# Altium footprint library PcbLib1.PcbLib: 30 footprints (part 1 of 2)
Each footprint in its own frame and in the unit in brackets; x right, y up, seen from the top. Pads: shape width x height; smd on the part's side, far side on the other; paste and mask are expansions set on the pad; w line width, h text height; cw(c..) or ccw(c..) is an arc to the next point about the centre after c.
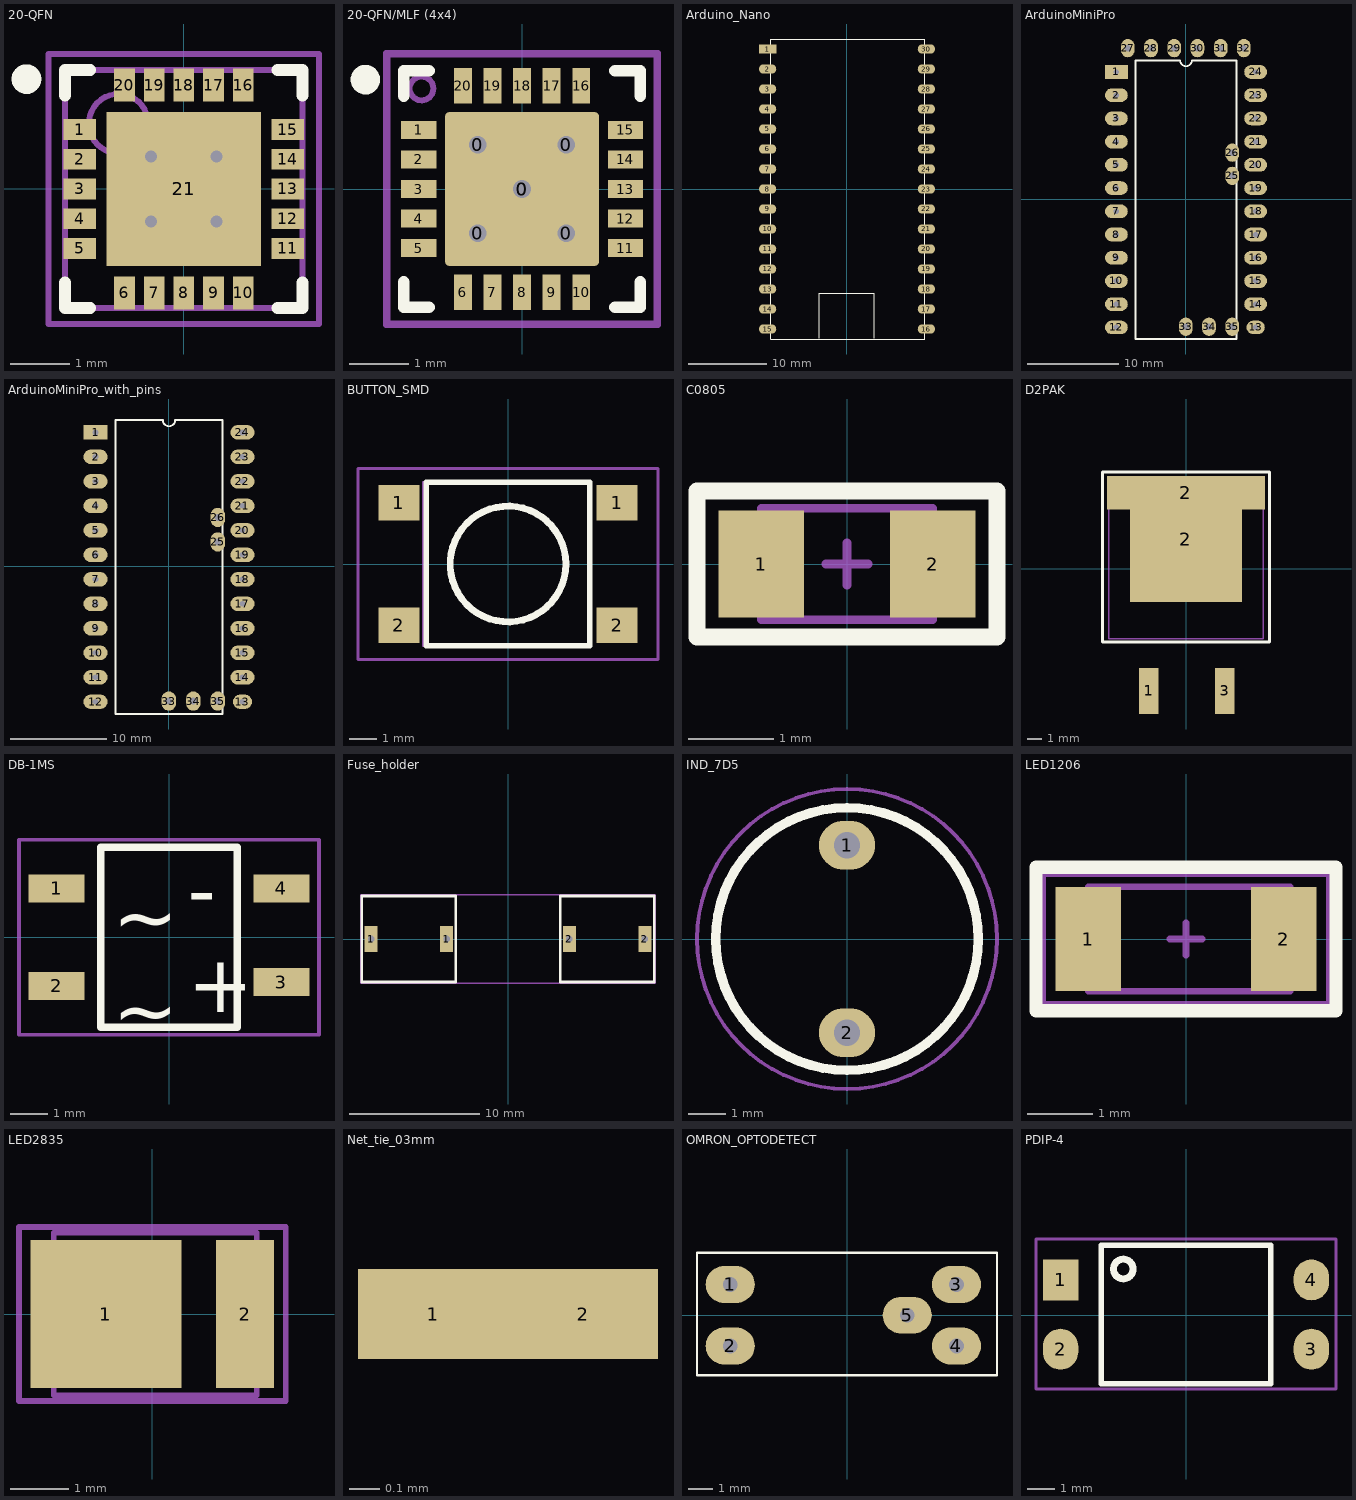
[diagram p0: the footprints below, top view; thin cyan lines are the x and y axes]

## 20-QFN [mm] "PQFN, 20-Leads, Body 4,00x4,00mm, Pitch 0,50mm, Thermal Pad 2,60x2,60mm, IPC Medium Density"
height 0.8
pads (21):
  rect 0.55x0.35 smd: 1(-1.75,1) 2(-1.75,0.5) 3(-1.75,0) 4(-1.75,-0.5) 5(-1.75,-1) 11(1.75,-1) 12(1.75,-0.5) 13(1.75,0) 14(1.75,0.5) 15(1.75,1)
  rect 0.35x0.55 smd: 6(-1,-1.75) 7(-0.5,-1.75) 8(0,-1.75) 9(0.5,-1.75) 10(1,-1.75) 16(1,1.75) 17(0.5,1.75) 18(0,1.75) 19(-0.5,1.75) 20(-1,1.75)
  rect 2.6x2.6 smd: 21(0,0)
via 0.55,-0.55 diameter 0.5 hole 0.2
via -0.55,-0.55 diameter 0.5 hole 0.2
via 0.55,0.55 diameter 0.5 hole 0.2
via -0.55,0.55 diameter 0.5 hole 0.2
Top Overlay:
  circle w0.25: c-2.65,1.85 r0.125
  lines w0.2: -2,-1.575 -2,-2 -1.575,-2 ; -2,1.575 -2,2 -1.575,2 ; 1.575,-2 2,-2 2,-1.575 ; 1.575,2 2,2 2,1.575
Top Assy:
  circle w0.1: c-1.1,1.1 r0.5
  lines w0.1: -2,-2 2,-2 2,2 -2,2 -2,-2
Borders:
  lines w0.1: -0.5,0 0.5,0 ; 0,-0.5 0,0.5 ; -2.275,-2.275 2.275,-2.275 2.275,2.275 -2.275,2.275 -2.275,-2.275
3D body "20-QFN.step": height 0.8, standoff 0, extent -2,-2 2,2

## 20-QFN/MLF (4x4) [mm]
pads (26):
  round 0.5 hole 0.3: 0(-0.75,-0.75) 0(-0.75,0.75) 0(0,0) 0(0.75,-0.75) 0(0.75,0.75)
  rrect5% 2.6x2.6 smd: 0(0,0)
  rect 0.6x0.3 smd: 1(-1.75,1) 2(-1.75,0.5) 3(-1.75,0) 4(-1.75,-0.5) 5(-1.75,-1) 11(1.75,-1) 12(1.75,-0.5) 13(1.75,0) 14(1.75,0.5) 15(1.75,1)
  rect 0.3x0.6 smd: 6(-1,-1.75) 7(-0.5,-1.75) 8(0,-1.75) 9(0.5,-1.75) 10(1,-1.75) 16(1,1.75) 17(0.5,1.75) 18(0,1.75) 19(-0.5,1.75) 20(-1,1.75)
Top Overlay:
  circle w0.25: c-2.65,1.85 r0.125
  lines w0.2: -2,-1.575 -2,-2 -1.575,-2 ; -2,1.575 -2,2 -1.575,2 ; 1.575,-2 2,-2 2,-1.575 ; 1.575,2 2,2 2,1.575
Top Assy:
  circle w0.1: c-1.7,1.7 r0.2
  lines w0.1: -2.3,-2.3 2.3,-2.3 2.3,2.3 -2.3,2.3 -2.3,-2.3
Borders:
  lines w0.1: -0.5,0 0.5,0 ; 0,-0.5 0,0.5 ; -2.275,-2.275 2.275,-2.275 2.275,2.275 -2.275,2.275 -2.275,-2.275
3D body "User Library-QFN20_4x4x0_8.STEP": height 0.78, standoff -0.02, extent -2.01,-2.01 2.01,2.01

## Arduino_Nano [mm]
pads (30):
  rect 2.2x1.2 smd: 1(-10.065,17.83)
  oval 2.2x1.2 smd: 2(-10.065,15.29) 3(-10.065,12.75) 4(-10.065,10.21) 5(-10.065,7.67) 6(-10.065,5.13) 7(-10.065,2.59) 8(-10.065,0.05) 9(-10.065,-2.49) 10(-10.065,-5.03) 11(-10.065,-7.57) 12(-10.065,-10.11) 13(-10.065,-12.65) 14(-10.065,-15.19) 15(-10.065,-17.73) 16(10.1,-17.73) 17(10.1,-15.19) 18(10.1,-12.65) 19(10.1,-10.11) 20(10.1,-7.57) 21(10.1,-5.03) 22(10.1,-2.49) 23(10.1,0.05) 24(10.1,2.59) 25(10.1,5.13) 26(10.1,7.67) 27(10.1,10.21) 28(10.1,12.75) 29(10.1,15.29) 30(10.1,17.83)
Top Overlay:
  lines w0.1: -3.5,-18.9 -3.5,-13.2 3.5,-13.2 3.5,-18.9 ; -9.665,-19 -9.665,19.1 0.735,19.1 9.865,19.1 9.865,-19 -9.665,-19

## ArduinoMiniPro [mm]
pads (35):
  rect 2.5x1.5 hole 0.6: 1(-7.6,13.9)
  oval 2.5x1.5 hole 0.6: 2(-7.6,11.36) 3(-7.6,8.82) 4(-7.6,6.28) 5(-7.6,3.74) 6(-7.6,1.2) 7(-7.6,-1.34) 8(-7.6,-3.88) 9(-7.6,-6.42) 10(-7.6,-8.96) 11(-7.6,-11.5) 12(-7.6,-14.04) 14(7.64,-11.5) 15(7.64,-8.96) 16(7.64,-6.42) 17(7.64,-3.88) 18(7.64,-1.34) 19(7.64,1.2) 20(7.64,3.74) 21(7.64,6.28) 22(7.64,8.82) 23(7.64,11.36) 24(7.64,13.9)
  oval 2x1.5 hole 0.6: 13(7.64,-14.04)
  oval 1.5x2 hole 0.7: 25(5.08,2.54) 26(5.08,5.08) 27(-6.35,16.51) 28(-3.81,16.51) 29(-1.27,16.51) 30(1.27,16.51) 31(3.81,16.51) 32(6.35,16.51) 33(0,-13.97) 34(2.54,-13.97) 35(5.08,-13.97)
Top Overlay:
  lines w0.2: -5.515,-15.31 -5.515,15.17 -0.615,15.17 ccw(c0.02,15.17) 0.655,15.17 5.555,15.17 5.555,-15.31 -5.515,-15.31

## ArduinoMiniPro_with_pins [mm]
pads (29):
  rect 2.5x1.5 hole 0.6: 1(-7.6,13.9)
  oval 2.5x1.5 hole 0.6: 2(-7.6,11.36) 3(-7.6,8.82) 4(-7.6,6.28) 5(-7.6,3.74) 6(-7.6,1.2) 7(-7.6,-1.34) 8(-7.6,-3.88) 9(-7.6,-6.42) 10(-7.6,-8.96) 11(-7.6,-11.5) 12(-7.6,-14.04) 14(7.64,-11.5) 15(7.64,-8.96) 16(7.64,-6.42) 17(7.64,-3.88) 18(7.64,-1.34) 19(7.64,1.2) 20(7.64,3.74) 21(7.64,6.28) 22(7.64,8.82) 23(7.64,11.36) 24(7.64,13.9)
  oval 2x1.5 hole 0.6: 13(7.64,-14.04)
  oval 1.5x2 hole 0.7: 25(5.08,2.54) 26(5.08,5.08) 33(0,-13.97) 34(2.54,-13.97) 35(5.08,-13.97)
Top Overlay:
  lines w0.2: -5.515,-15.31 -5.515,15.17 -0.615,15.17 ccw(c0.02,15.17) 0.655,15.17 5.555,15.17 5.555,-15.31 -5.515,-15.31

## BUTTON_SMD [mm]
pads (4):
  rect 1.5x1.3 smd: 1(-4,2.25) 1(4,2.25) 2(-4,-2.25) 2(4,-2.25)
Top Overlay:
  circle w0.254: c0,0 r2.121
  lines w0.2: -3,-3 -3,3 -0.13,3 3,3 3,-3 -3,-3
Top Assy:
  lines w0.1: -3.1,-3 3,-3 3,3 -3.1,3 -3.1,-3
Borders:
  lines w0.1: -5.5,-3.5 5.5,-3.5 5.5,3.5 -5.5,3.5 -5.5,-3.5

## C0805 [mm]
pads (2):
  rect 1x1.25 smd: 1(-1,0) 2(1,0)
Top Overlay:
  lines w0.2: -1.75,-0.85 -1.75,0.85 1.75,0.85 1.75,-0.85 -1.75,-0.85
Top Assy:
  lines w0.1: -1,-0.65 -1,0.65 1,0.65 1,-0.65 -1,-0.65
Borders:
  lines w0.1: -0.25,0 0.25,0 ; 0,-0.25 0,0.25 ; -1.75,-0.85 -1.75,0.85 1.75,0.85 1.75,-0.85 -1.75,-0.85
3D body "User Library-C0805-2.STEP": height 0.8, standoff 0, extent -1,-0.625 1,0.625

## D2PAK [mm]
pads (4):
  rect 1.3x3.1 smd: 1(-2.5,-8.2) 3(2.6,-8.2)
  rect 7.5x8.45 smd: 2(0,2)
  rect 10.6x2.25 smd: 2(0,5.1)
Top Overlay:
  lines w0.2: -5.6,-4.9 5.6,-4.9 5.6,6.5 -5.6,6.5 -5.6,-4.9
Top Assy:
  lines w0.1: -5.2,-4.7 -5.2,6.1 5.2,6.1 5.2,-4.7 -5.2,-4.7
Borders:
  lines w0.1: -5.6,-4.9 5.6,-4.9 5.6,6.5 -5.6,6.5 -5.6,-4.9
3D body "pwr263s-35-2r50j.stp": height 4.5, standoff 0, extent -5.05,-9.49 5.05,5.9

## DB-1MS [mm]
pads (4):
  rect 1.5x0.75 smd: 1(-3,1.3) 2(-3,-1.3) 3(3,-1.2) 4(3,1.3)
Top Overlay:
  lines w0.2: -1.815,-2.4 -1.815,2.4 1.815,2.4 1.815,-2.4 -1.815,-2.4
  text "+" at 0.5,-2 h1.52
  text "-" at 0.5,0.5 h1.52
  text "~" at -1.5,-0.2 h1.52
  text "~" at -1.5,-2.7 h1.52
Top Assy:
  lines w0.1: -1.8,-2.4 1.8,-2.4 1.8,2.4 -1.8,2.4 -1.8,-2.4
Borders:
  lines w0.1: -4,-2.6 4,-2.6 4,2.6 -4,2.6 -4,-2.6
3D body "User Library-DB1-MS.STEP": height 2.9, standoff 0, extent -3.8,-2.45 3.8,2.45

## Fuse_holder [mm]
pads (4):
  rect 1x2 hole 0.5 square: 1(-10.5,0) 1(-4.7,0) 2(4.7,0) 2(10.5,0)
Top Overlay:
  lines w0.2: -11.2,-3.3 -11.2,3.3 -4,3.3 -4,-3.3 -11.2,-3.3 ; 4,-3.3 11.2,-3.3 11.2,3.3 4,3.3 4,-3.3
Top Assy:
  lines w0.1: -11.3,-3.4 -11.3,3.4 11.3,3.4 11.3,-3.4 -11.3,-3.4
Borders:
  lines w0.1: -11.3,-3.4 -11.3,3.4 11.3,3.4 11.3,-3.4 -11.3,-3.4
3D body "ALSRobot-Fuse.STEP": height 9.59, standoff -3.31, extent -10.638,-3.115 10.641,3.076

## IND_7D5 [mm]
pads (2):
  oval 1.5x1.3 hole 0.7: 1(0,2.5) 2(0,-2.5)
Top Overlay:
  circle w0.254: c0,0 r3.5
Top Assy:
  circle w0.1: c0,0 r3.5
Borders:
  circle w0.1: c0,0 r4

## LED1206 [mm]
pads (2):
  rect 1x1.6 smd: 1(-1.5,0) 2(1.5,0)
Top Overlay:
  lines w0.2: -2.3,-1.1 2.3,-1.1 2.3,1.1 -2.3,1.1 -2.3,-1.1
Top Assy:
  lines w0.1: -1.5,-0.8 1.6,-0.8 1.6,0.8 -1.5,0.8 -1.5,-0.8
Borders:
  lines w0.1: -0.25,0 0.25,0 ; 0,-0.25 0,0.25 ; -2.2,-1 2.2,-1 2.2,1 -2.2,1 -2.2,-1
3D body "User Library-LED 1206 BLUE.step": height 1.1, standoff 0, extent -1.6,-0.8 1.6,0.8

## LED2835 [mm] "SMD LED"
pads (2):
  rect 2.6x2.55 smd: 1(-0.8,0)
  rect 1x2.55 smd: 2(1.6,0)
Top Assy:
  lines w0.1: -1.7,-1.4 -1.7,1.4 1.8,1.4 1.8,-1.4 -1.7,-1.4
Borders:
  lines w0.1: -0.25,0 0.25,0 ; 0,-0.25 0,0.25 ; -2.3,-1.5 -2.3,1.5 2.3,1.5 2.3,-1.5 -2.3,-1.5

## Net_tie_03mm [mm]
pads (2):
  rect 0.5x0.3 smd paste+0 mask+0: 1(-1.7,1.2) 2(-1.2,1.2)

## OMRON_OPTODETECT [mm]
pads (5):
  oval 2x1.5 hole 0.6: 1(-4.75,1.25) 2(-4.75,-1.25) 3(4.45,1.25) 4(4.45,-1.25) 5(2.45,0)
Top Overlay:
  lines w0.1: -6.1,-2.45 -6.1,2.55 6.1,2.55 6.1,-2.45 -6.1,-2.45

## PDIP-4 [mm]
pads (4):
  rect 1.3x1.5 smd: 1(-4.6,1.3)
  oval 1.3x1.5 smd: 2(-4.6,-1.24) 3(4.6,-1.24) 4(4.6,1.3)
Top Overlay:
  circle w0.254: c-2.3,1.7 r0.361
  lines w0.2: -0.7,2.57 3.115,2.57 3.115,-2.51 -3.115,-2.51 -3.115,2.57 -0.635,2.57
Top Assy:
  lines w0.1: -3.1,-2.5 3.1,-2.5 3.1,2.6 -3.1,2.6 -3.1,-2.5
Borders:
  lines w0.1: -5.5,-2.7 5.5,-2.7 5.5,2.8 -5.5,2.8 -5.5,-2.7
3D body "User Library-PDIP_4_smd.step": height 3.51, standoff 0.01, extent -5.08,-2.3 5.08,2.3